# Altium footprint library TE Card Edge Connectors and Sockets.PcbLib: 2 footprints
Each footprint in its own frame and in the unit in brackets; x right, y up, seen from the top. Pads: shape width x height; smd on the part's side, far side on the other; paste and mask are expansions set on the pad; w line width, h text height; cw(c..) or ccw(c..) is an arc to the next point about the centre after c.
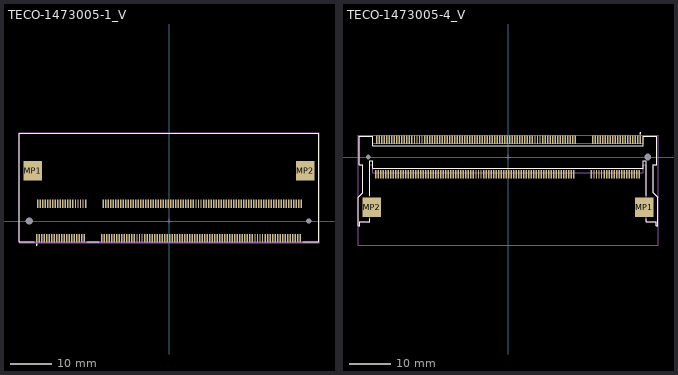
[diagram p0: the footprints below, top view; thin cyan lines are the x and y axes]

## TECO-1473005-1_V [mm] "SMD, Pitch 0.6mm, 2x100 Position, Height 5.2mm"
height 5.2
pads (204):
  rect 0.35x2 smd: 1(-31.65,-4.1) 2(-31.35,4.1) 3(-31.05,-4.1) 4(-30.75,4.1) 5(-30.45,-4.1) 6(-30.15,4.1) 7(-29.85,-4.1) 8(-29.55,4.1) 9(-29.25,-4.1) 10(-28.95,4.1) 11(-28.65,-4.1) 12(-28.35,4.1) 13(-28.05,-4.1) 14(-27.75,4.1) 15(-27.45,-4.1) 16(-27.15,4.1) 17(-26.85,-4.1) 18(-26.55,4.1) 19(-26.25,-4.1) 20(-25.95,4.1) 21(-25.65,-4.1) 22(-25.35,4.1) 23(-25.05,-4.1) 24(-24.75,4.1) 25(-24.45,-4.1) 26(-24.15,4.1) 27(-23.85,-4.1) 28(-23.55,4.1) 29(-23.25,-4.1) 30(-22.95,4.1) 31(-22.65,-4.1) 32(-22.35,4.1) 33(-22.05,-4.1) 34(-21.75,4.1) 35(-21.45,-4.1) 36(-21.15,4.1) 37(-20.85,-4.1) 38(-20.55,4.1) 39(-20.25,-4.1) 40(-19.95,4.1) 41(-16.05,-4.1) 42(-15.75,4.1) 43(-15.45,-4.1) 44(-15.15,4.1) 45(-14.85,-4.1) 46(-14.55,4.1) 47(-14.25,-4.1) 48(-13.95,4.1) 49(-13.65,-4.1) 50(-13.35,4.1) 51(-13.05,-4.1) 52(-12.75,4.1) 53(-12.45,-4.1) 54(-12.15,4.1) 55(-11.85,-4.1) 56(-11.55,4.1) 57(-11.25,-4.1) 58(-10.95,4.1) 59(-10.65,-4.1) 60(-10.35,4.1) 61(-10.05,-4.1) 62(-9.75,4.1) 63(-9.45,-4.1) 64(-9.15,4.1) 65(-8.85,-4.1) 66(-8.55,4.1) 67(-8.25,-4.1) 68(-7.95,4.1) 69(-7.65,-4.1) 70(-7.35,4.1) 71(-7.05,-4.1) 72(-6.75,4.1) 73(-6.45,-4.1) 74(-6.15,4.1) 75(-5.85,-4.1) 76(-5.55,4.1) 77(-5.25,-4.1) 78(-4.95,4.1) 79(-4.65,-4.1) 80(-4.35,4.1) 81(-4.05,-4.1) 82(-3.75,4.1) 83(-3.45,-4.1) 84(-3.15,4.1) 85(-2.85,-4.1) 86(-2.55,4.1) 87(-2.25,-4.1) 88(-1.95,4.1) 89(-1.65,-4.1) 90(-1.35,4.1) 91(-1.05,-4.1) 92(-0.75,4.1) 93(-0.45,-4.1) 94(-0.15,4.1) 95(0.15,-4.1) 96(0.45,4.1) 97(0.75,-4.1) 98(1.05,4.1) 99(1.35,-4.1) 100(1.65,4.1) 101(1.95,-4.1) 102(2.25,4.1) 103(2.55,-4.1) 104(2.85,4.1) 105(3.15,-4.1) 106(3.45,4.1) 107(3.75,-4.1) 108(4.05,4.1) 109(4.35,-4.1) 110(4.65,4.1) 111(4.95,-4.1) 112(5.25,4.1) 113(5.55,-4.1) 114(5.85,4.1) 115(6.15,-4.1) 116(6.45,4.1) 117(6.75,-4.1) 118(7.05,4.1) 119(7.35,-4.1) 120(7.65,4.1) 121(7.95,-4.1) 122(8.25,4.1) 123(8.55,-4.1) 124(8.85,4.1) 125(9.15,-4.1) 126(9.45,4.1) 127(9.75,-4.1) 128(10.05,4.1) 129(10.35,-4.1) 130(10.65,4.1) 131(10.95,-4.1) 132(11.25,4.1) 133(11.55,-4.1) 134(11.85,4.1) 135(12.15,-4.1) 136(12.45,4.1) 137(12.75,-4.1) 138(13.05,4.1) 139(13.35,-4.1) 140(13.65,4.1) 141(13.95,-4.1) 142(14.25,4.1) 143(14.55,-4.1) 144(14.85,4.1) 145(15.15,-4.1) 146(15.45,4.1) 147(15.75,-4.1) 148(16.05,4.1) 149(16.35,-4.1) 150(16.65,4.1) 151(16.95,-4.1) 152(17.25,4.1) 153(17.55,-4.1) 154(17.85,4.1) 155(18.15,-4.1) 156(18.45,4.1) 157(18.75,-4.1) 158(19.05,4.1) 159(19.35,-4.1) 160(19.65,4.1) 161(19.95,-4.1) 162(20.25,4.1) 163(20.55,-4.1) 164(20.85,4.1) 165(21.15,-4.1) 166(21.45,4.1) 167(21.75,-4.1) 168(22.05,4.1) 169(22.35,-4.1) 170(22.65,4.1) 171(22.95,-4.1) 172(23.25,4.1) 173(23.55,-4.1) 174(23.85,4.1) 175(24.15,-4.1) 176(24.45,4.1) 177(24.75,-4.1) 178(25.05,4.1) 179(25.35,-4.1) 180(25.65,4.1) 181(25.95,-4.1) 182(26.25,4.1) 183(26.55,-4.1) 184(26.85,4.1) 185(27.15,-4.1) 186(27.45,4.1) 187(27.75,-4.1) 188(28.05,4.1) 189(28.35,-4.1) 190(28.65,4.1) 191(28.95,-4.1) 192(29.25,4.1) 193(29.55,-4.1) 194(29.85,4.1) 195(30.15,-4.1) 196(30.45,4.1) 197(30.75,-4.1) 198(31.05,4.1) 199(31.35,-4.1) 200(31.65,4.1)
  round 1.4 hole 1.7 unplated: MH1(-33.4,0)
  round 0.9 hole 1.2 unplated: MH2(33.4,0)
  rect 4.5x4.6 smd: MP1(-32.55,12) MP2(32.55,12)
Top Overlay:
  circle w0.25: c-31.65,-5.65 r0.125
  lines w0.2: -32.225,-5 -35.75,-5 -35.75,21 35.75,21 35.75,-5 31.925,-5 ; -19.675,-5 -16.625,-5
Mechanical 13:
  lines w0.1: -35.75,-5 -35.75,21 35.75,21 35.75,-5 -35.75,-5
Mechanical 15:
  lines w0.05: -35.85,-5.2 -35.85,21.1 35.85,21.1 35.85,-5.2 -35.85,-5.2
  lines w0.1: -0.5,0 0.5,0 ; 0,-0.5 0,0.5
3D body "c-1473005-1-j1-3d.stp": height 5.2, standoff -0.65, extent -35.75,-5 35.75,21.05

## TECO-1473005-4_V [mm] "Socket, 200-Leads, Body Length 71.5mm, Pitch 0.6mm"
height 5.2
pads (204):
  rect 0.35x2 smd: 1(31.65,4.1) 2(31.35,-4.1) 3(31.05,4.1) 4(30.75,-4.1) 5(30.45,4.1) 6(30.15,-4.1) 7(29.85,4.1) 8(29.55,-4.1) 9(29.25,4.1) 10(28.95,-4.1) 11(28.65,4.1) 12(28.35,-4.1) 13(28.05,4.1) 14(27.75,-4.1) 15(27.45,4.1) 16(27.15,-4.1) 17(26.85,4.1) 18(26.55,-4.1) 19(26.25,4.1) 20(25.95,-4.1) 21(25.65,4.1) 22(25.35,-4.1) 23(25.05,4.1) 24(24.75,-4.1) 25(24.45,4.1) 26(24.15,-4.1) 27(23.85,4.1) 28(23.55,-4.1) 29(23.25,4.1) 30(22.95,-4.1) 31(22.65,4.1) 32(22.35,-4.1) 33(22.05,4.1) 34(21.75,-4.1) 35(21.45,4.1) 36(21.15,-4.1) 37(20.85,4.1) 38(20.55,-4.1) 39(20.25,4.1) 40(19.95,-4.1) 41(16.05,4.1) 42(15.75,-4.1) 43(15.45,4.1) 44(15.15,-4.1) 45(14.85,4.1) 46(14.55,-4.1) 47(14.25,4.1) 48(13.95,-4.1) 49(13.65,4.1) 50(13.35,-4.1) 51(13.05,4.1) 52(12.75,-4.1) 53(12.45,4.1) 54(12.15,-4.1) 55(11.85,4.1) 56(11.55,-4.1) 57(11.25,4.1) 58(10.95,-4.1) 59(10.65,4.1) 60(10.35,-4.1) 61(10.05,4.1) 62(9.75,-4.1) 63(9.45,4.1) 64(9.15,-4.1) 65(8.85,4.1) 66(8.55,-4.1) 67(8.25,4.1) 68(7.95,-4.1) 69(7.65,4.1) 70(7.35,-4.1) 71(7.05,4.1) 72(6.75,-4.1) 73(6.45,4.1) 74(6.15,-4.1) 75(5.85,4.1) 76(5.55,-4.1) 77(5.25,4.1) 78(4.95,-4.1) 79(4.65,4.1) 80(4.35,-4.1) 81(4.05,4.1) 82(3.75,-4.1) 83(3.45,4.1) 84(3.15,-4.1) 85(2.85,4.1) 86(2.55,-4.1) 87(2.25,4.1) 88(1.95,-4.1) 89(1.65,4.1) 90(1.35,-4.1) 91(1.05,4.1) 92(0.75,-4.1) 93(0.45,4.1) 94(0.15,-4.1) 95(-0.15,4.1) 96(-0.45,-4.1) 97(-0.75,4.1) 98(-1.05,-4.1) 99(-1.35,4.1) 100(-1.65,-4.1) 101(-1.95,4.1) 102(-2.25,-4.1) 103(-2.55,4.1) 104(-2.85,-4.1) 105(-3.15,4.1) 106(-3.45,-4.1) 107(-3.75,4.1) 108(-4.05,-4.1) 109(-4.35,4.1) 110(-4.65,-4.1) 111(-4.95,4.1) 112(-5.25,-4.1) 113(-5.55,4.1) 114(-5.85,-4.1) 115(-6.15,4.1) 116(-6.45,-4.1) 117(-6.75,4.1) 118(-7.05,-4.1) 119(-7.35,4.1) 120(-7.65,-4.1) 121(-7.95,4.1) 122(-8.25,-4.1) 123(-8.55,4.1) 124(-8.85,-4.1) 125(-9.15,4.1) 126(-9.45,-4.1) 127(-9.75,4.1) 128(-10.05,-4.1) 129(-10.35,4.1) 130(-10.65,-4.1) 131(-10.95,4.1) 132(-11.25,-4.1) 133(-11.55,4.1) 134(-11.85,-4.1) 135(-12.15,4.1) 136(-12.45,-4.1) 137(-12.75,4.1) 138(-13.05,-4.1) 139(-13.35,4.1) 140(-13.65,-4.1) 141(-13.95,4.1) 142(-14.25,-4.1) 143(-14.55,4.1) 144(-14.85,-4.1) 145(-15.15,4.1) 146(-15.45,-4.1) 147(-15.75,4.1) 148(-16.05,-4.1) 149(-16.35,4.1) 150(-16.65,-4.1) 151(-16.95,4.1) 152(-17.25,-4.1) 153(-17.55,4.1) 154(-17.85,-4.1) 155(-18.15,4.1) 156(-18.45,-4.1) 157(-18.75,4.1) 158(-19.05,-4.1) 159(-19.35,4.1) 160(-19.65,-4.1) 161(-19.95,4.1) 162(-20.25,-4.1) 163(-20.55,4.1) 164(-20.85,-4.1) 165(-21.15,4.1) 166(-21.45,-4.1) 167(-21.75,4.1) 168(-22.05,-4.1) 169(-22.35,4.1) 170(-22.65,-4.1) 171(-22.95,4.1) 172(-23.25,-4.1) 173(-23.55,4.1) 174(-23.85,-4.1) 175(-24.15,4.1) 176(-24.45,-4.1) 177(-24.75,4.1) 178(-25.05,-4.1) 179(-25.35,4.1) 180(-25.65,-4.1) 181(-25.95,4.1) 182(-26.25,-4.1) 183(-26.55,4.1) 184(-26.85,-4.1) 185(-27.15,4.1) 186(-27.45,-4.1) 187(-27.75,4.1) 188(-28.05,-4.1) 189(-28.35,4.1) 190(-28.65,-4.1) 191(-28.95,4.1) 192(-29.25,-4.1) 193(-29.55,4.1) 194(-29.85,-4.1) 195(-30.15,4.1) 196(-30.45,-4.1) 197(-30.75,4.1) 198(-31.05,-4.1) 199(-31.35,4.1) 200(-31.65,-4.1)
  round 1.3 hole 1.6 unplated: MH1(33.4,0)
  round 0.8 hole 1.1 unplated: MH2(-33.4,0)
  rect 4.5x4.6 smd: MP1(32.55,-12) MP2(-32.55,-12)
Top Overlay:
  circle w0.25: c31.65,5.65 r0.125
  lines w0.2: -34.763,-1.863 -34.763,-8.544 -35.75,-9.663 -35.75,-16.444 -35.4,-16.444 -35.4,-15.45 -33.1,-15.45 -33.1,-14.7 ; -34.763,-1.85 -35.5,-1.85 -35.5,5 -32.35,5 -32.35,2.7 32.35,2.7 32.35,5 35.5,5 35.5,-1.85 34.763,-1.85 ; -33.03,-9.3 -33.03,-0.85 -32.35,-0.85 -32.35,-2.7 32.35,-2.7 32.35,-0.85 33.03,-0.85 33.03,-9.3 ; 33.1,-14.7 33.1,-15.45 35.4,-15.45 35.4,-16.444 35.75,-16.444 35.75,-9.663 34.763,-8.544 34.763,-1.863
Mechanical 13:
  lines w0.1: -34.763,-1.863 -34.763,-8.544 -35.75,-9.663 -35.75,-16.444 -35.4,-16.444 -35.4,-15.45 -33.1,-15.45 -33.1,-13.986 -31.725,-13.986 -31.725,-10.014 -33.03,-10.014 ; -34.763,-1.85 -35.5,-1.85 -35.5,5 -32.35,5 -32.35,3.3 32.35,3.3 32.35,5 35.5,5 35.5,-1.85 34.763,-1.85 ; -33.03,-9.35 -33.03,-1.85 -32.35,-1.85 -32.35,-3.7 32.35,-3.7 32.35,-1.85 33.03,-1.85 33.03,-10.014 31.725,-10.014 31.725,-13.986 33.1,-13.986 33.1,-15.45 35.4,-15.45 35.4,-16.444 35.75,-16.444 35.75,-9.663 34.763,-8.544 34.763,-1.863
Mechanical 15:
  lines w0.05: -35.85,-21.052 35.85,-21.052 35.85,5.2 -35.85,5.2 -35.85,-21.052
  lines w0.1: -0.5,0 0.5,0 ; 0,-0.5 0,0.5
3D body "1473005-4.stp": height 5.2, standoff -0.97, extent -35.75,-21.042 35.75,5